# Altium footprint library Adafruit ESP8266 Feather rev E.PcbLib: 21 footprints (part 2 of 2)
Each footprint in its own frame and in the unit in brackets; x right, y up, seen from the top. Pads: shape width x height; smd on the part's side, far side on the other; paste and mask are expansions set on the pad; w line width, h text height; cw(c..) or ccw(c..) is an arc to the next point about the centre after c.
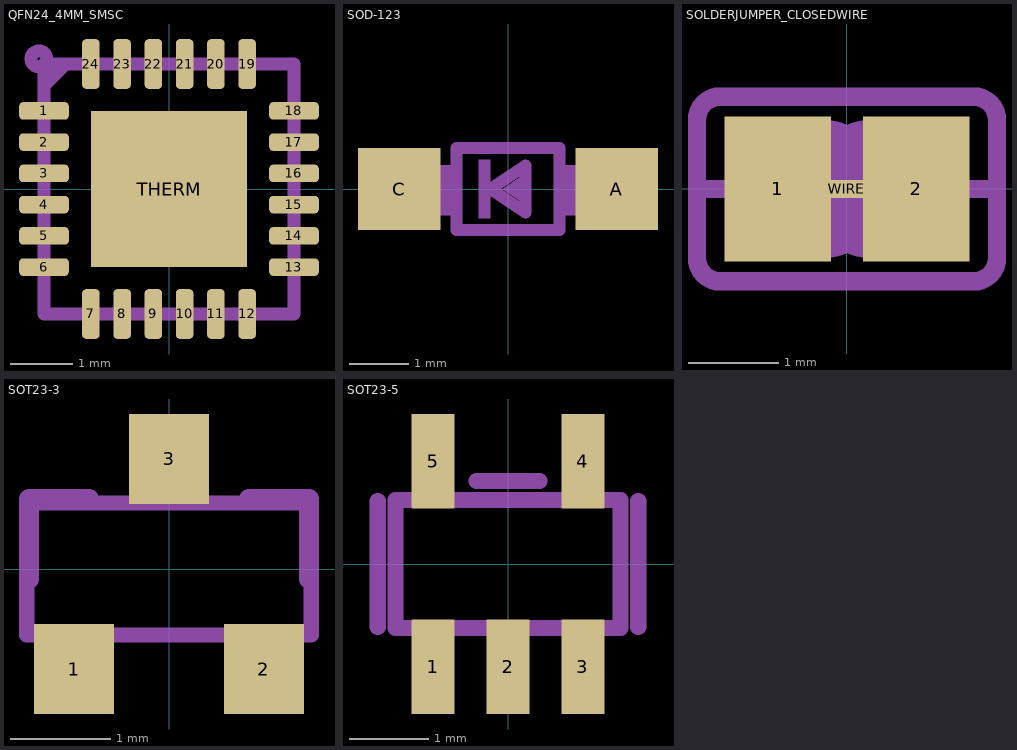
[diagram p1: the footprints below, top view; thin cyan lines are the x and y axes]

## QFN24_4MM_SMSC [mm] "QFN24_4MM_SMSC"
pads (25):
  rrect50% 0.8x0.28 smd: 1(-2,1.25) 2(-2,0.75) 3(-2,0.25) 4(-2,-0.25) 5(-2,-0.75) 6(-2,-1.25) 13(2,-1.25) 14(2,-0.75) 15(2,-0.25) 16(2,0.25) 17(2,0.75) 18(2,1.25)
  rrect50% 0.28x0.8 smd: 7(-1.25,-2) 8(-0.75,-2) 9(-0.25,-2) 10(0.25,-2) 11(0.75,-2) 12(1.25,-2) 19(1.25,2) 20(0.75,2) 21(0.25,2) 22(-0.25,2) 23(-0.75,2) 24(-1.25,2)
  rect 2.5x2.5 smd paste+0: THERM(0,0)
Top Paste:
  region: -0.3,-1.2 -0.3,-0.6 0.3,-0.6 0.3,-1.2
  region: -0.3,0.6 -0.3,1.2 0.3,1.2 0.3,0.6
  region: 0.6,-0.3 0.6,0.3 1.2,0.3 1.2,-0.3
  region: 0.6,-1.2 0.6,-0.6 1.2,-0.6 1.2,-1.2
  region: 0.6,0.6 0.6,1.2 1.2,1.2 1.2,0.6
  region: -1.2,0.6 -1.2,1.2 -0.6,1.2 -0.6,0.6
  region: -1.2,-0.3 -1.2,0.3 -0.6,0.3 -0.6,-0.3
  region: -0.3,-0.3 -0.3,0.3 0.3,0.3 0.3,-0.3
  region: -1.2,-1.2 -1.2,-0.6 -0.6,-0.6 -0.6,-1.2
Mechanical 8:
  lines w0.203: -2,-2 2,-2 2,2 -2,2 -2,-2
Mechanical 16:
  circle w0.203: c-2.083,2.083 r0.127
  lines w0.203: -2,-1.65 -2,-2 -1.65,-2 ; -2,1.65 -1.65,2 ; 1.65,-2 2,-2 2,-1.65 ; 1.65,2 2,2 2,1.65

## SOD-123 [mm] "SOD-123"
pads (2):
  rect 1.4x1.4 smd: A(1.85,0) C(-1.85,0)
Mechanical 8:
  region: 0.973,-0.45 0.973,0.4 1.723,0.4 1.723,-0.45
  region: -1.723,-0.45 -1.723,0.4 -0.973,0.4 -0.973,-0.45
  lines w0.203: -0.873,-0.7 -0.873,0.7 ; 0.873,-0.7 0.873,0.7
Mechanical 16:
  region: -0.1,0 0.2,0.2 0.2,-0.2
  region: -0.5,-0.5 -0.5,0.5 -0.3,0.5 -0.3,-0.5
  lines w0.203: -0.873,-0.7 0.873,-0.7 ; -0.873,0.7 0.873,0.7 ; -0.3,0 0.3,-0.4 0.3,0.4 -0.3,0

## SOLDERJUMPER_CLOSEDWIRE [mil] "SOLDERJUMPER_CLOSEDWIRE"
pads (3):
  rect 46x63 smd paste+0 mask+0: 1(-30,0) 2(30,0)
  rect 25x8 smd paste+0 mask+0: WIRE(0,0)
Top Solder:
  region: -50,30 50,30 50,-30 -50,-30
Mechanical 8:
  lines w8: -60,0 -40,0 ; 40,0 60,0
  lines w50: -10,-5 cw(c-10,0) -10,5 ; 10,-5 ccw(c10,0) 10,5
Mechanical 16:
  lines w8: -65,-30 ccw(c-55,-30) -55,-40 55,-40 ccw(c55,-30) 65,-30 65,30 ccw(c55,30) 55,40 -55,40 ccw(c-55,30) -65,30 -65,-30

## SOT23-3 [mil] "SOT23-3"
pads (3):
  rect 31.5x35.43 smd: 1(-37.4,-39.37) 2(37.4,-39.37) 3(0,43.31)
Mechanical 8:
  lines w6: -56,-26 -56,26 56,26 56,-26 -56,-26
Mechanical 16:
  lines w8: -55.12,-3.94 -55.12,27.56 -31.5,27.56 ; 31.5,27.56 55.12,27.56 55.12,-3.94

## SOT23-5 [mm] "SOT23-5"
pads (5):
  rect 0.55x1.2 smd: 1(-0.95,-1.3) 2(0,-1.3) 3(0.95,-1.3) 4(0.95,1.3) 5(-0.95,1.3)
Mechanical 8:
  region: -1.2,0.85 -1.2,1.5 -0.7,1.5 -0.7,0.85
  region: 0.7,0.85 0.7,1.5 1.2,1.5 1.2,0.85
  region: 0.7,-1.5 0.7,-0.85 1.2,-0.85 1.2,-1.5
  region: -0.25,-1.5 -0.25,-0.85 0.25,-0.85 0.25,-1.5
  region: -1.2,-1.5 -1.2,-0.85 -0.7,-0.85 -0.7,-1.5
  lines w0.203: -1.422,-0.811 -1.422,0.811 1.422,0.811 1.422,-0.811 -1.422,-0.811
Mechanical 16:
  lines w0.203: -1.65,-0.8 -1.65,0.8 ; -0.4,1.05 0.4,1.05 ; 1.65,-0.8 1.65,0.8